# EAGLE library part LT1492CS8TRPBF (library IPNS_Lib)
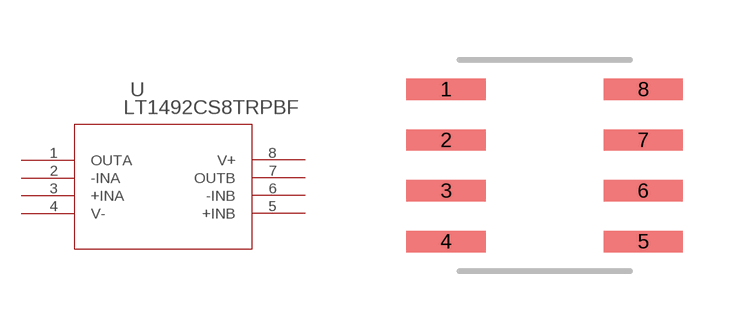
[diagram p3: symbol with the pads of SO-8_S; footprint SO-8_S]

Designator prefix U

## LT1492CS8TRPBF (MANUFACTURER_PART_NUMBER: lt1492cs8#trpbf; VENDOR: Linear Technology)  [SO-8_S]
1  OUTA  out
2  -INA  in
3  +INA  in
4  V-  pwr
5  +INB  in
6  -INB  in
7  OUTB  out
8  V+  pwr

## Footprint SO-8_S (pad centres in mm)
smd 1.981 x 0.533: 1 -2.464,1.905; 2 -2.464,0.635; 3 -2.464,-0.635; 4 -2.464,-1.905; 5 2.464,-1.905; 6 2.464,-0.635; 7 2.464,0.635; 8 2.464,1.905